# EAGLE library part A4982 (library thomas_library)
The A4982 is a bipolar stepper motor driver from Allegro
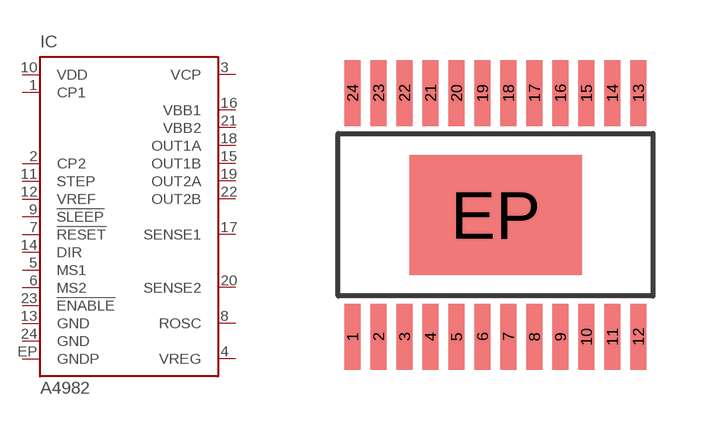
[diagram p2: symbol with the pads of TSSOP_24_PAD; footprint TSSOP_24_PAD]

Designator prefix IC

## A4982  [TSSOP_24_PAD]
1  CP1
2  CP2
3  VCP
4  VREG
5  MS1
6  MS2
7  !RESET!
8  ROSC
9  !SLEEP!
10  VDD
11  STEP
12  VREF
13  GND
14  DIR
15  OUT1B
16  VBB1
17  SENSE1
18  OUT1A
19  OUT2A
20  SENSE2
21  VBB2
22  OUT2B
23  !ENABLE!
24  GND
EP  GNDP

## Footprint TSSOP_24_PAD (pad centres in mm)
This TSSOP-24 footprint has a 4.32mm x 3.0mm thermal pad, 0.45mm x 1.6mm pin pads, 0.65mm spacing, 5.6mm diameter
smd 0.4 x 1.65: 1 -3.575,-3.05; 2 -2.925,-3.05; 3 -2.275,-3.05; 4 -1.625,-3.05; 5 -0.975,-3.05; 6 -0.325,-3.05; 7 0.325,-3.05; 8 0.975,-3.05; 9 1.625,-3.05; 10 2.275,-3.05; 11 2.925,-3.05; 12 3.575,-3.05; 13 3.575,3.05; 14 2.925,3.05; 15 2.275,3.05; 16 1.625,3.05; 17 0.975,3.05; 18 0.325,3.05; 19 -0.325,3.05; 20 -0.975,3.05; 21 -1.625,3.05; 22 -2.275,3.05; 23 -2.925,3.05; 24 -3.575,3.05
smd 4.32 x 3: EP 0,0